# EAGLE library part BCKBST_LM (library Eagle_CAD_parts)
IC REG CTRLR BUCK 20TSSOP • Input Voltage Operating Range From 3 V to 42 V • Emulated Peak Current Mode Control • Smooth Transition Between Step-Down and StepUp Modes • Switching Frequency Programmable to 500 KHz • Oscillator Synchronization Capability • Internal High Voltage Bias Regulator • Integrated High and Low-Side Gate Drivers • Programmable Soft-Start Time • Ultra-Low Shutdown Current • Enable Input • Wide Bandwidth Error Amplifier • 1.5% Feedback Reference Accuracy • Thermal Shutdown • Package: 20-Pin HTSSOP (Exposed Pad)
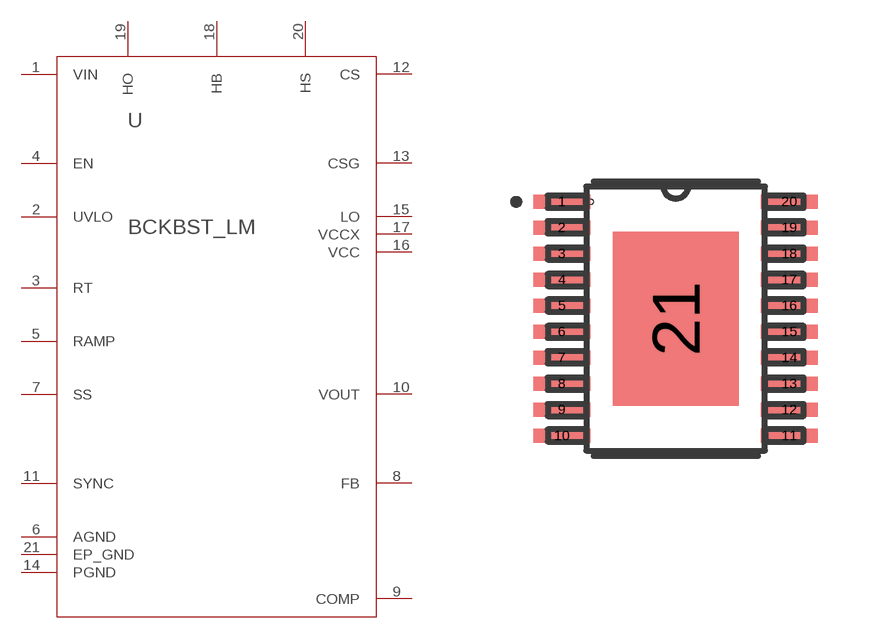
[diagram p18: symbol with the pads of 20-HTSSOP; footprint 20-HTSSOP]

Designator prefix U

## BCKBST_LM25118MHXNOPB (DIGIKEY_PART_NUMBER: 296-43037-2-ND; MANUFACTURER_PART_NUMBER: LM25118MHXNOPB; VENDOR: Texas Instruments)  [20-HTSSOP]
1  VIN  in
2  UVLO  pas
3  RT  pas
4  EN  pas
5  RAMP  pas
6  AGND  pwr
7  SS  pas
8  FB  out
9  COMP  out
10  VOUT  out
11  SYNC  in
12  CS  in
13  CSG  in
14  PGND  pwr
15  LO  out
16  VCC  pwr
17  VCCX  pwr
18  HB  pas
19  HO  out
20  HS  pas
21  EP_GND  pas

## Footprint 20-HTSSOP (pad centres in mm)
smd 1.422 x 0.356: 1 -2.845,2.925; 2 -2.845,2.275; 3 -2.845,1.625; 4 -2.845,0.975; 5 -2.845,0.325; 6 -2.845,-0.325; 7 -2.845,-0.975; 8 -2.845,-1.625; 9 -2.845,-2.275; 10 -2.845,-2.925; 11 2.845,-2.925; 12 2.845,-2.275; 13 2.845,-1.625; 14 2.845,-0.975; 15 2.845,-0.325; 16 2.845,0.325; 17 2.845,0.975; 18 2.845,1.625; 19 2.845,2.275; 20 2.845,2.925
smd 3.15 x 4.343: 21 0,0